# Altium footprint library Slide Switch.PcbLib: 1 footprints
Each footprint in its own frame and in the unit in brackets; x right, y up, seen from the top. Pads: shape width x height; smd on the part's side, far side on the other; paste and mask are expansions set on the pad; w line width, h text height; cw(c..) or ccw(c..) is an arc to the next point about the centre after c.
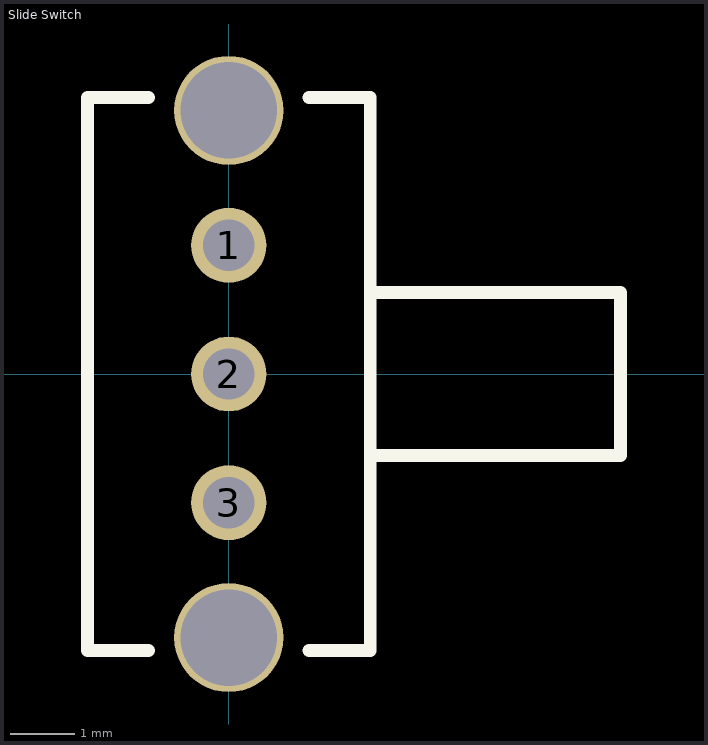
[diagram p0: the footprint, top view; thin cyan lines are the x and y axes]

## Slide Switch [mm]
pads (5):
  round 1.168 hole 0.8: 1(0,2) 2(0,0) 3(0,-2)
  round 1.7 hole 1.5: ""(0,-4.1) ""(0,4.1)
Top Overlay:
  lines w0.2: -1.25,-4.3 -2.2,-4.3 -2.2,4.3 -1.25,4.3 ; 1.25,-4.3 2.2,-4.3 2.2,4.3 1.25,4.3 ; 2.2,-1.27 6.096,-1.27 6.096,1.27 2.2,1.27
3D body "os102011ma1qn1_093011.stp": height 4.7, standoff -2.8, extent -1.5,-4.775 6.9,3.825